# EAGLE library part WE-RJ45_7499021125 (library 7499511611A_Eagle_WE-RJ45_rev20a)
WE-RJ45 LAN Transformer Characteristics RJ45 Connector with integrated transformer / common mode choke Power over Ethernet up to 50 Watt and speeds up to 10 Gbit/s Available in SMD, THT and THT with USB Compliant with standards: IEEE 802.3u, IEEE 802.3ab, IEEE 802.3af, IEEE 802.3at, IEEE 802.3an and upcoming IEE 802.3bt Applications Suitable for industrial temperatures from –40 °C up to +85 °C Compatible to Industrial Ethernet systems like EtherCAT or Profinet Compliant with most IC’s for Ethernet applications such as Microchip, Texas Instruments, Broadcom, Linear Technology Hubs, Routers, Switches, IP cameras, IoT applications <https://katalog.we-online.com/media/images/v2/o35731v209%20Family_WE-RJ45-LAN.jpg> Details see: https://katalog.we-online.com/en/pbs/WE-LAN-RJ45 Updated by Ella Wu 2019-08-05 2019 (C) Wurth Elektronik
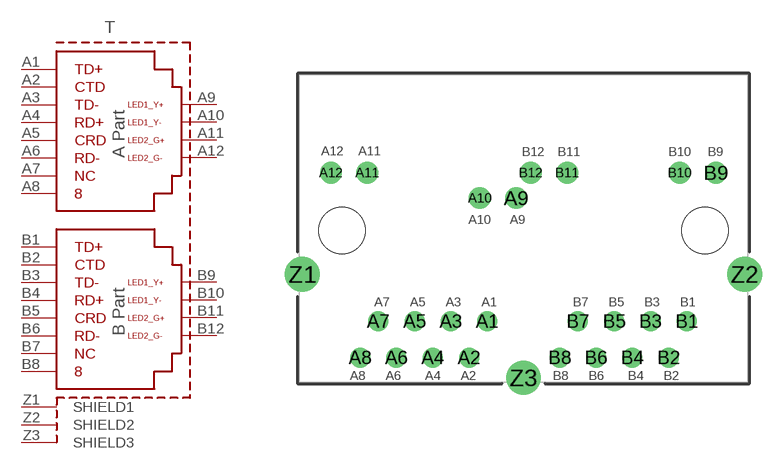
[diagram p23: symbol with the pads of 7499021125; footprint 7499021125]

Designator prefix T

## WE-RJ45_7499021125 (DATA-RATE: 10/100 Base-T; DATASHEET-URL: https://www.we-online.com/catalog/datasheet/7499021125.pdf; LED: yellow-green; MOUNT: THT; PART-NUMBER: 7499021125; POE: non-PoE; PORTS: 1x2; USB: No)  [7499021125]
A1  A1
A2  A2
A3  A3
A4  A4
A5  A5
A6  A6
A7  A7  pas
A8  A8
A9  A9  pas
A10  A10  pas
A11  A11  pas
A12  A12  pas
B1  B1
B2  B2
B3  B3
B4  B4
B5  B5
B6  B6
B7  B7  pas
B8  B8
B9  B9  pas
B10  B10  pas
B11  B11  pas
B12  B12  pas
Z1  SHIELD1  pwr
Z2  SHIELD2  pwr
Z3  SHIELD3  pwr

## Footprint 7499021125 (pad centres in mm)
WE-RJ45 LAN Transformer 10/100 Base-T
drill 0.89: A1 -2.54,-6.35; A2 -3.81,-8.89; A3 -5.08,-6.35; A4 -6.35,-8.89; A5 -7.62,-6.35; A6 -8.89,-8.89; A7 -10.16,-6.35; A8 -11.43,-8.89; B1 11.43,-6.35; B2 10.16,-8.89; B3 8.89,-6.35; B4 7.62,-8.89; B5 6.35,-6.35; B6 5.08,-8.89; B7 3.81,-6.35; B8 2.54,-8.89
drill 1.02: A9 -0.51,2.29; A10 -3.05,2.29; A11 -10.93,4.06; A12 -13.47,4.06; B9 13.47,4.06; B10 10.93,4.06; B11 3.05,4.06; B12 0.51,4.06
drill 1.63: Z1 -15.465,-3.05; Z2 15.465,-3.05
drill 1.6: Z3 0,-10.29
hole 3.25 at -12.7,0
hole 3.25 at 12.7,0